# EAGLE library part ATSAMD51 (library pandasat)
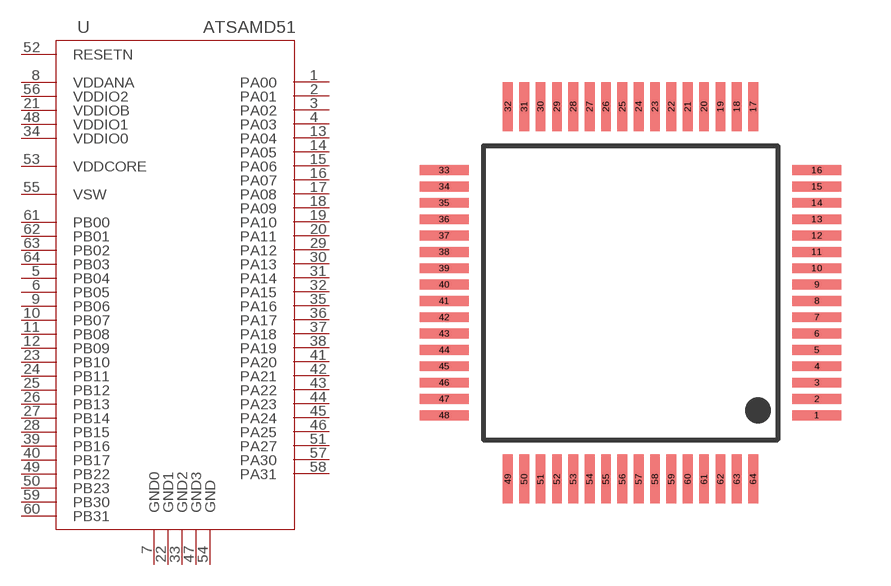
[diagram p0: symbol with the pads of TQFP-64; footprint TQFP-64]

Designator prefix U

## ATSAMD51  [TQFP-64]
1  PA00
2  PA01
3  PA02
4  PA03
5  PB04
6  PB05
7  GND0  pwr
8  VDDANA  pwr
9  PB06
10  PB07
11  PB08
12  PB09
13  PA04
14  PA05
15  PA06
16  PA07
17  PA08
18  PA09
19  PA10
20  PA11
21  VDDIOB  pwr
22  GND1  pwr
23  PB10
24  PB11
25  PB12
26  PB13
27  PB14
28  PB15
29  PA12
30  PA13
31  PA14
32  PA15
33  GND2  pwr
34  VDDIO0  pwr
35  PA16
36  PA17
37  PA18
38  PA19
39  PB16
40  PB17
41  PA20
42  PA21
43  PA22
44  PA23
45  PA24
46  PA25
47  GND3  pwr
48  VDDIO1  pwr
49  PB22
50  PB23
51  PA27
52  RESETN
53  VDDCORE  pwr
54  GND  pwr
55  VSW  pwr
56  VDDIO2  pwr
57  PA30
58  PA31
59  PB30
60  PB31
61  PB00
62  PB01
63  PB02
64  PB03

## Footprint TQFP-64 (pad centres in mm)
smd 1.5 x 0.3: 1 5.7,-3.75; 2 5.7,-3.25; 3 5.7,-2.75; 4 5.7,-2.25; 5 5.7,-1.75; 6 5.7,-1.25; 7 5.7,-0.75; 8 5.7,-0.25; 9 5.7,0.25; 10 5.7,0.75; 11 5.7,1.25; 12 5.7,1.75; 13 5.7,2.25; 14 5.7,2.75; 15 5.7,3.25; 16 5.7,3.75; 33 -5.7,3.75; 34 -5.7,3.25; 35 -5.7,2.75; 36 -5.7,2.25; 37 -5.7,1.75; 38 -5.7,1.25; 39 -5.7,0.75; 40 -5.7,0.25; 41 -5.7,-0.25; 42 -5.7,-0.75; 43 -5.7,-1.25; 44 -5.7,-1.75; 45 -5.7,-2.25; 46 -5.7,-2.75; 47 -5.7,-3.25; 48 -5.7,-3.75
smd 0.3 x 1.5: 17 3.75,5.7; 18 3.25,5.7; 19 2.75,5.7; 20 2.25,5.7; 21 1.75,5.7; 22 1.25,5.7; 23 0.75,5.7; 24 0.25,5.7; 25 -0.25,5.7; 26 -0.75,5.7; 27 -1.25,5.7; 28 -1.75,5.7; 29 -2.25,5.7; 30 -2.75,5.7; 31 -3.25,5.7; 32 -3.75,5.7; 49 -3.75,-5.7; 50 -3.25,-5.7; 51 -2.75,-5.7; 52 -2.25,-5.7; 53 -1.75,-5.7; 54 -1.25,-5.7; 55 -0.75,-5.7; 56 -0.25,-5.7; 57 0.25,-5.7; 58 0.75,-5.7; 59 1.25,-5.7; 60 1.75,-5.7; 61 2.25,-5.7; 62 2.75,-5.7; 63 3.25,-5.7; 64 3.75,-5.7